# Altium schematic symbol library IC_Analog_Devices_ADUM226N0BRIZ_2CH_Isolator.SchLib: 1 symbol
Pins are listed as number, name and electrical type; pins without a type are passive.

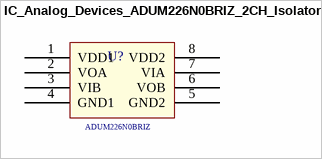
[diagram p0: symbol IC_Analog_Devices_ADUM226N0BRIZ_2CH_Isolator]

## IC_Analog_Devices_ADUM226N0BRIZ_2CH_Isolator
designator U?  Series: ADUM226N0BRIZ  (hidden comment: IC_Analog_Devices_ADUM226N0BRIZ_2CH_Isolator)
Digital Isolators IC Robust Dual ISO 2:1 channel; Supplier 1: Mouser; Supplier Part Number 1: 584-ADUM226N0BRIZ
footprint IC_Analog_Devices_ADUM226N0BRIZ_2CH_Isolator
pins: 1 VDD1, 2 VOA, 3 VIB, 4 GND1, 5 GND2, 6 VOB, 7 VIA, 8 VDD2